# Altium footprint library CON_Vertical 7X2_Ribbon.PcbLib: 1 footprints
Each footprint in its own frame and in the unit in brackets; x right, y up, seen from the top. Pads: shape width x height; smd on the part's side, far side on the other; paste and mask are expansions set on the pad; w line width, h text height; cw(c..) or ccw(c..) is an arc to the next point about the centre after c.
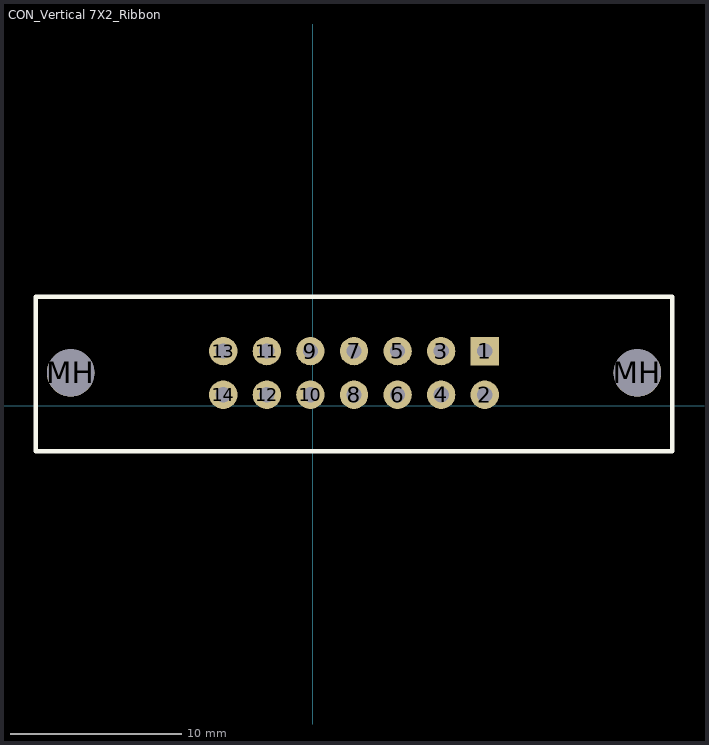
[diagram p0: the footprint, top view; thin cyan lines are the x and y axes]

## CON_Vertical 7X2_Ribbon [mil] "Ribbon Connector"
pads (16):
  rect 65x65 hole 35: 1(395,125)
  round 65 hole 35: 2(395,25) 3(295,125) 4(295,25) 5(195,125) 6(195,25) 7(95,125) 8(95,25) 9(-5,125) 10(-5,25) 11(-105,125) 12(-105,25) 13(-205,125) 14(-205,25)
  round 109 hole 109: MH(-555,75) MH(745,75)
Top Overlay:
  lines w10: -635,-105 -635,250 825,250 825,-105 -635,-105
3D body: height 918.81, standoff -107.09, extent -635.31,-103.26 825.32,243.19